# Altium schematic symbol library EM406-a.SchLib: 1 symbol
Pins are listed as number, name and electrical type; pins without a type are passive.

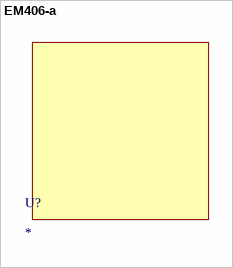
[diagram p0: symbol EM406-a]

## EM406-a
designator U?
GPS Module EM406-a
footprint EM406-a (GPS Module EM406-a)